# Altium integrated library NPN SOT-23 SMT BC848C_RFG.IntLib: 1 symbol
Pins are listed as number, name and electrical type; pins without a type are passive.

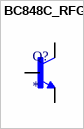
[diagram p0: symbol BC848C_RFG]

## BC848C_RFG
designator Q?
SOT-23, 30V, 0.1A, NPN Transistor; MF: Taiwan Semiconductor; MP: BC848C RFG; SnapEDA_Link: https://www.snapeda.com/parts/BC848C%20RFG/Taiwan+Semiconductor/view-part/?ref=snap; Package: SOT-23 Taiwan Semiconductor; Value: *; Check_prices: https://www.snapeda.com/parts/BC848C%20RFG/Taiwan+Semiconductor/view-part/?ref=eda
footprint SOT95P237X112-3N
pins: 1 B, 2 E, 3 C